# EAGLE library part TE-1-282834-0 (library OpenSourceSyringePump)
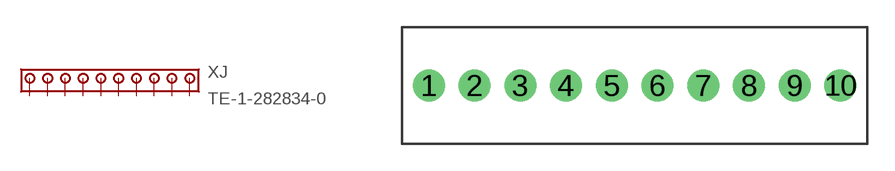
[diagram p3: symbol with the pads of TE-1-282834-0; footprint TE-1-282834-0]

Designator prefix XJ

## TE-1-282834-0  [TE-1-282834-0]
1  1  pas
2  2  pas
3  3  pas
4  4  pas
5  5  pas
6  6  pas
7  7  pas
8  8  pas
9  9  pas
10  10  pas

## Footprint TE-1-282834-0 (pad centres in mm)
drill 0.94 pad 1.778: 1 -11.43,0; 2 -8.89,0; 3 -6.35,0; 4 -3.81,0; 5 -1.27,0; 6 1.27,0; 7 3.81,0; 8 6.35,0; 9 8.89,0; 10 11.43,0